# Altium footprint library PCB - DIODES - TI - X1SON DPY.PCBLIB: 1 footprints
Each footprint in its own frame and in the unit in brackets; x right, y up, seen from the top. Pads: shape width x height; smd on the part's side, far side on the other; paste and mask are expansions set on the pad; w line width, h text height; cw(c..) or ccw(c..) is an arc to the next point about the centre after c.
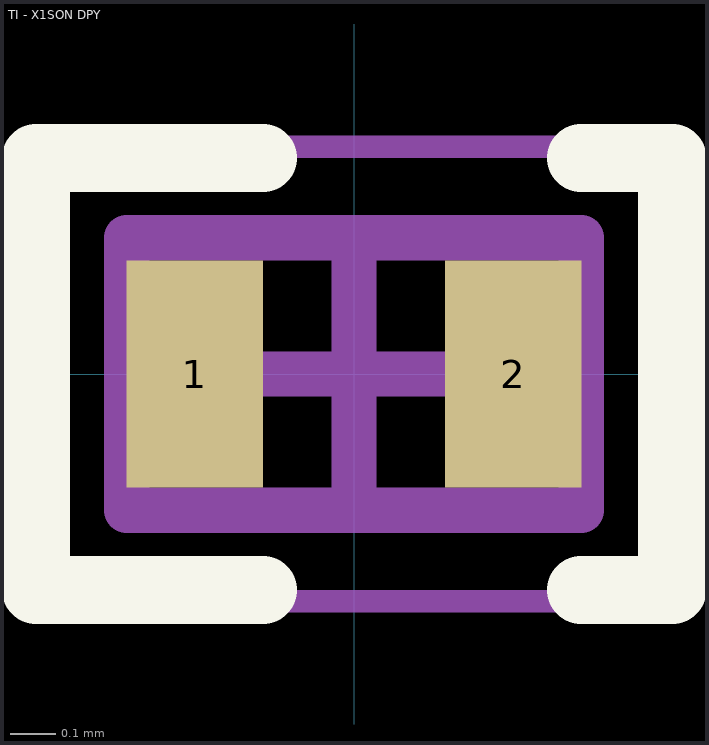
[diagram p0: the footprint, top view; thin cyan lines are the x and y axes]

## TI - X1SON DPY [mm] "X1SON, 2-Leads, Body 0.6x1mm"
height 0.45
pads (2):
  rect 0.3x0.5 smd: 1(-0.35,0) 2(0.35,0)
Top Overlay:
  lines w0.15: -0.2,-0.475 -0.7,-0.475 -0.7,0.475 -0.2,0.475 ; 0.5,-0.475 0.7,-0.475 0.7,0.475 0.5,0.475
Mechanical 13:
  lines w0.1: -0.5,-0.3 -0.5,0.3 0.5,0.3 0.5,-0.3 -0.5,-0.3
Mechanical 15:
  lines w0.05: -0.7,-0.5 -0.7,0.5 0.7,0.5 0.7,-0.5 -0.7,-0.5
  lines w0.1: -0.25,0 0.25,0 ; 0,-0.25 0,0.25
3D body "TI - X1SON DPY0002A.step": height 0.45, standoff 0, extent -0.501,-0.301 0.501,0.301